# Altium footprint library SBv1Components.PcbLib: 3 footprints
Each footprint in its own frame and in the unit in brackets; x right, y up, seen from the top. Pads: shape width x height; smd on the part's side, far side on the other; paste and mask are expansions set on the pad; w line width, h text height; cw(c..) or ccw(c..) is an arc to the next point about the centre after c.
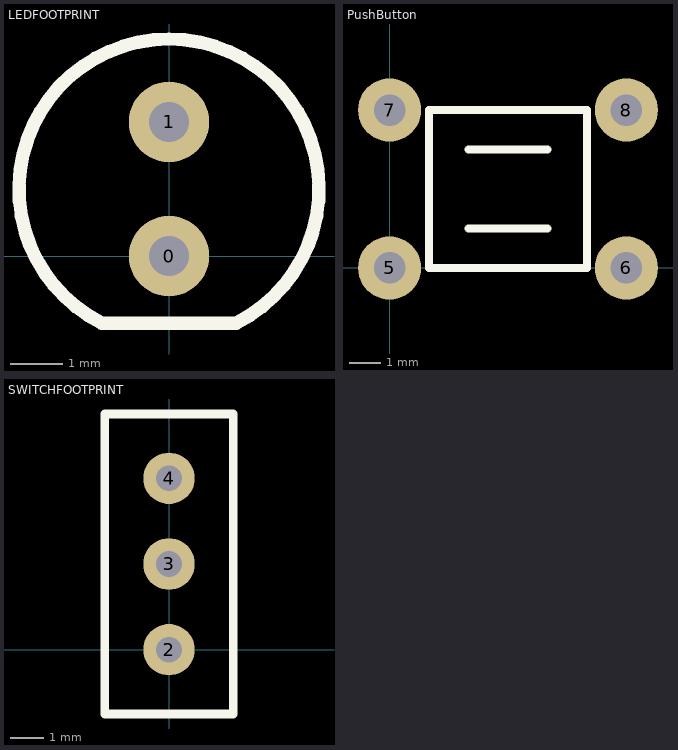
[diagram p0: the footprints below, top view; thin cyan lines are the x and y axes]

## LEDFOOTPRINT [mil]
pads (2):
  round 60 hole 30: 0(0,0) 1(0,100)
Top Overlay:
  lines w10: -50,-50 cw(c0,50) 50,-50 -50,-50
3D body: height 300, standoff 0, extent -99.99,-49.96 100.01,149.97

## PushButton [mil]
pads (4):
  round 80 hole 40: 5(0,0) 6(300,0) 7(0,200) 8(300,200)
Top Overlay:
  lines w10: 100,50 200,50 ; 100,150 200,150 ; 50,0 250,0 250,200 50,200 50,0
3D body: height 100, standoff 0, extent 50,0 250,200
3D body: height 300, standoff 100, extent 100,50.03 200,149.97

## SWITCHFOOTPRINT [mil]
pads (3):
  round 60 hole 30: 2(0,0) 3(0,100) 4(0,200)
Top Overlay:
  lines w10: -75,-75 -75,275 75,275 75,-75 -75,-75
3D body: height 300, standoff 150, extent -25,150 25,200
3D body: height 150, standoff 0, extent -75,-75 75,275